# Altium footprint library PcbLib1.PcbLib: 2 footprints
Each footprint in its own frame and in the unit in brackets; x right, y up, seen from the top. Pads: shape width x height; smd on the part's side, far side on the other; paste and mask are expansions set on the pad; w line width, h text height; cw(c..) or ccw(c..) is an arc to the next point about the centre after c.
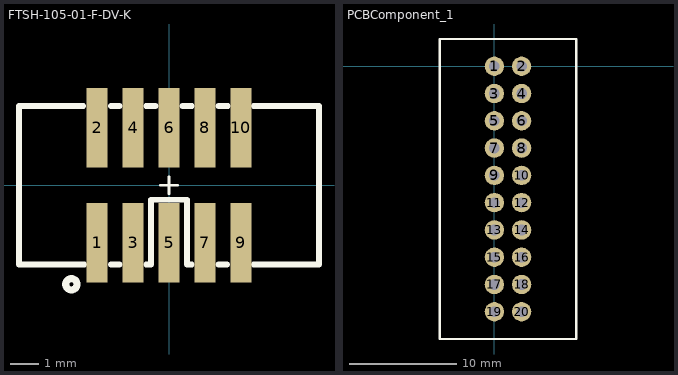
[diagram p0: the footprints below, top view; thin cyan lines are the x and y axes]

## FTSH-105-01-F-DV-K [mm] "1.27mm pitch, 10 pin, terminal strip; vertical, double row, w/ejector shroud, SMT"
height 5.97
pads (10):
  rect 0.75x2.8 smd mask+0: 1(-2.54,-2.032) 2(-2.54,2.032) 3(-1.27,-2.032) 4(-1.27,2.032) 5(0,-2.032) 6(0,2.032) 7(1.27,-2.032) 8(1.27,2.032) 9(2.54,-2.032) 10(2.54,2.032)
Top Overlay:
  circle w0.25: c-3.45,-3.5 r0.2
  lines w0.1: -0.3,0 0.3,0 ; 0,-0.3 0,0.3
  lines w0.2: -3.025,2.8 -5.3,2.8 -5.3,-2.8 -3,-2.8 ; -2.05,-2.8 -1.75,-2.8 ; -2.05,2.8 -1.75,2.8 ; -0.8,-2.8 -0.635,-2.8 ; -0.8,2.8 -0.475,2.8 ; -0.635,-2.765 -0.635,-0.508 0.635,-0.508 0.635,-2.8 0.8,-2.8 ; 0.475,2.8 0.8,2.8 ; 1.75,-2.8 2.05,-2.8 ; 1.75,2.8 2.075,2.8 ; 3,-2.8 5.3,-2.8 5.3,2.8 3,2.8

## PCBComponent_1 [mm]
pads (20):
  round 1.8 hole 1: 1(0,0) 2(2.54,0) 3(0,-2.54) 4(2.54,-2.54) 5(0,-5.08) 6(2.54,-5.08) 7(0,-7.62) 8(2.54,-7.62) 9(0,-10.16) 10(2.54,-10.16) 11(0,-12.7) 12(2.54,-12.7) 13(0,-15.24) 14(2.54,-15.24) 15(0,-17.78) 16(2.54,-17.78) 17(0,-20.32) 18(2.54,-20.32) 19(0,-22.86) 20(2.54,-22.86)
Top Overlay:
  lines w0.2: -5.08,-25.4 -5.08,2.54 7.62,2.54 7.62,-25.4 -5.08,-25.4